# Altium schematic symbol library 100-1069_Library.SchLib: 57 symbols
Pins are listed as number, name and electrical type; pins without a type are passive.

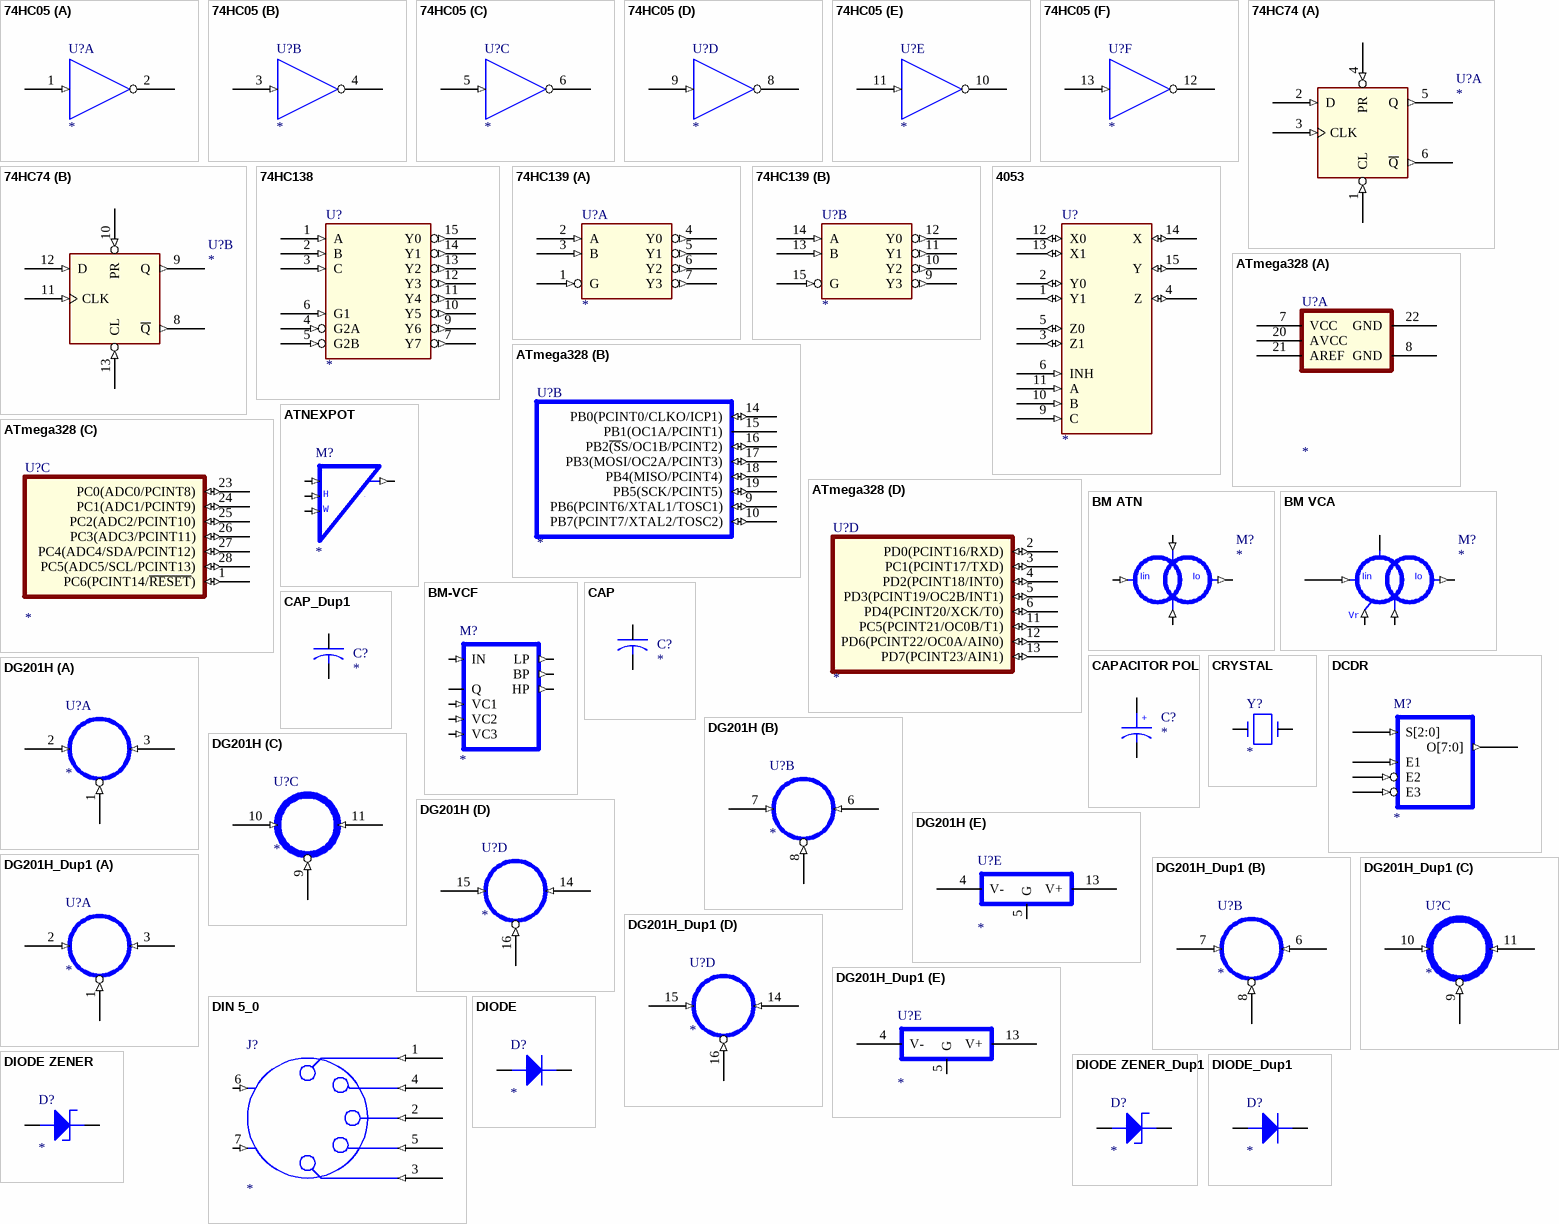
[diagram p0: symbols 74HC05 to DIODE_Dup1]

## 74HC05
designator U?
part A pins: 1 I (in), 2 O (oc), 7 GND (power) hidden to GND, 14 VCC (power) hidden to VCC
part B pins: 3 I (in), 4 O (oc), 7 GND (power) hidden to GND, 14 VCC (power) hidden to VCC
part C pins: 5 I (in), 6 O (oc), 7 GND (power) hidden to GND, 14 VCC (power) hidden to VCC
part D pins: 7 GND (power) hidden to GND, 8 O (oc), 9 I (in), 14 VCC (power) hidden to VCC
part E pins: 7 GND (power) hidden to GND, 10 O (oc), 11 I (in), 14 VCC (power) hidden to VCC
part F pins: 7 GND (power) hidden to GND, 12 O (oc), 13 I (in), 14 VCC (power) hidden to VCC
1 alternate drawing of the same symbol

## 74HC74
designator U?
part A pins: 1 CL (in), 2 D (in), 3 CLK (in), 4 PR (in), 5 Q (out), 6 ~{Q} (out), 7 GND (power) hidden to GND, 14 VCC (power) hidden to VCC
part B pins: 7 GND (power) hidden to GND, 8 ~{Q} (out), 9 Q (out), 10 PR (in), 11 CLK (in), 12 D (in), 13 CL (in), 14 VCC (power) hidden to VCC

## 74HC138
designator U?
pins: 1 A (in), 2 B (in), 3 C (in), 4 G2A (in), 5 G2B (in), 6 G1 (in), 7 Y7 (out), 8 GND (power) hidden to GND, 9 Y6 (out), 10 Y5 (out), 11 Y4 (out), 12 Y3 (out), 13 Y2 (out), 14 Y1 (out), 15 Y0 (out), 16 VCC (power) hidden to VCC

## 74HC139
designator U?
part A pins: 1 G (in), 2 A (in), 3 B (in), 4 Y0 (out), 5 Y1 (out), 6 Y2 (out), 7 Y3 (out), 8 GND (power) hidden to GND, 16 VCC (power) hidden to VCC
part B pins: 8 GND (power) hidden to GND, 9 Y3 (out), 10 Y2 (out), 11 Y1 (out), 12 Y0 (out), 13 B (in), 14 A (in), 15 G (in), 16 VCC (power) hidden to VCC

## 4053
designator U?
pins: 1 Y1 (io), 2 Y0 (io), 3 Z1 (io), 4 Z (io), 5 Z0 (io), 6 INH (in), 7 VEE (power) hidden to VEE, 8 VSS (power) hidden to VSS, 9 C (in), 10 B (in), 11 A (in), 12 X0 (io), 13 X1 (io), 14 X (io), 15 Y (io), 16 VDD (power) hidden to VDD

## ATmega328
designator U?
footprint DIP28.3
part A pins: 7 VCC, 8 GND, 20 AVCC, 21 AREF, 22 GND
part B pins: 9 PB6(PCINT6/XTAL1/TOSC1) (io), 10 PB7(PCINT7/XTAL2/TOSC2) (io), 14 PB0(PCINT0/CLKO/ICP1) (io), 15 PB1(OC1A/PCINT1), 16 PB2~{(S}S/OC1B/PCINT2) (io), 17 PB3(MOSI/OC2A/PCINT3) (io), 18 PB4(MISO/PCINT4) (io), 19 PB5(SCK/PCINT5) (io)
part C pins: 1 PC6(PCINT14/~{RESET}) (io), 23 PC0(ADC0/PCINT8) (io), 24 PC1(ADC1/PCINT9) (io), 25 PC2(ADC2/PCINT10) (io), 26 PC3(ADC3/PCINT11) (io), 27 PC4(ADC4/SDA/PCINT12) (io), 28 PC5(ADC5/SCL/PCINT13) (io)
part D pins: 2 PD0(PCINT16/RXD) (io), 3 PC1(PCINT17/TXD) (io), 4 PD2(PCINT18/INT0) (io), 5 PD3(PCINT19/OC2B/INT1) (io), 6 PD4(PCINT20/XCK/T0) (io), 11 PC5(PCINT21/OC0B/T1) (io), 12 PD6(PCINT22/OC0A/AIN0) (io), 13 PD7(PCINT23/AIN1) (io)

## ATNEXPOT
designator M?
pins: IN (in), OUT (out), POT_H (in), POT_W (in)
text: H; W

## BM ATN
designator M?
pins: CVN (in), CVP (in), Iin (in), Io (out)

## BM VCA
designator M?
pins: -VR (in), CVN, CVP (in), Iin (in), Io (out)
text: Vr

## BM-VCF
designator M?
pins: BP (out), HP (out), IN (in), LP (out), Q, VC1 (in), VC2 (in), VC3 (in)

## CAP
designator C?
pins: 1, 2

## CAP_Dup1
designator C?
pins: 1, 2

## CAPACITOR POL
designator C?
pins: 1, 2
text: +

## CRYSTAL
designator Y?
pins: 1, 2

## DCDR
designator M?
pins: E1 (in), E2 (in), E3 (in), O[7:0] (out), S[2:0] (in)

## DG201H
designator U?
DIGIKEY PN: ADG201AKNZ-ND
footprint DIP16
part A pins: 1 IN (in), 2 D (in), 3 S1 (in)
part B pins: 6 S1 (in), 7 D (in), 8 IN (in)
part C pins: 9 IN (in), 10 D (in), 11 S1 (in)
part D pins: 14 S1 (in), 15 D (in), 16 IN (in)
part E pins: 4 V-, 5 G, 13 V+

## DG201H_Dup1
designator U?
DIGIKEY PN: ADG201AKNZ-ND
footprint DIP16
part A pins: 1 IN (in), 2 D (in), 3 S1 (in)
part B pins: 6 S1 (in), 7 D (in), 8 IN (in)
part C pins: 9 IN (in), 10 D (in), 11 S1 (in)
part D pins: 14 S1 (in), 15 D (in), 16 IN (in)
part E pins: 4 V-, 5 G, 13 V+

## DIN 5_0
designator J?
pins: 1 (in), 2 (in), 3 (in), 4 (in), 5 (in), 6 (in), 7 (in)

## DIODE
designator D?
pins: ANODE, CATHODE

## DIODE ZENER
designator D?
pins: ANODE, CATHODE

## DIODE ZENER_Dup1
designator D?
pins: ANODE, CATHODE

## DIODE_Dup1
designator D?
pins: ANODE, CATHODE

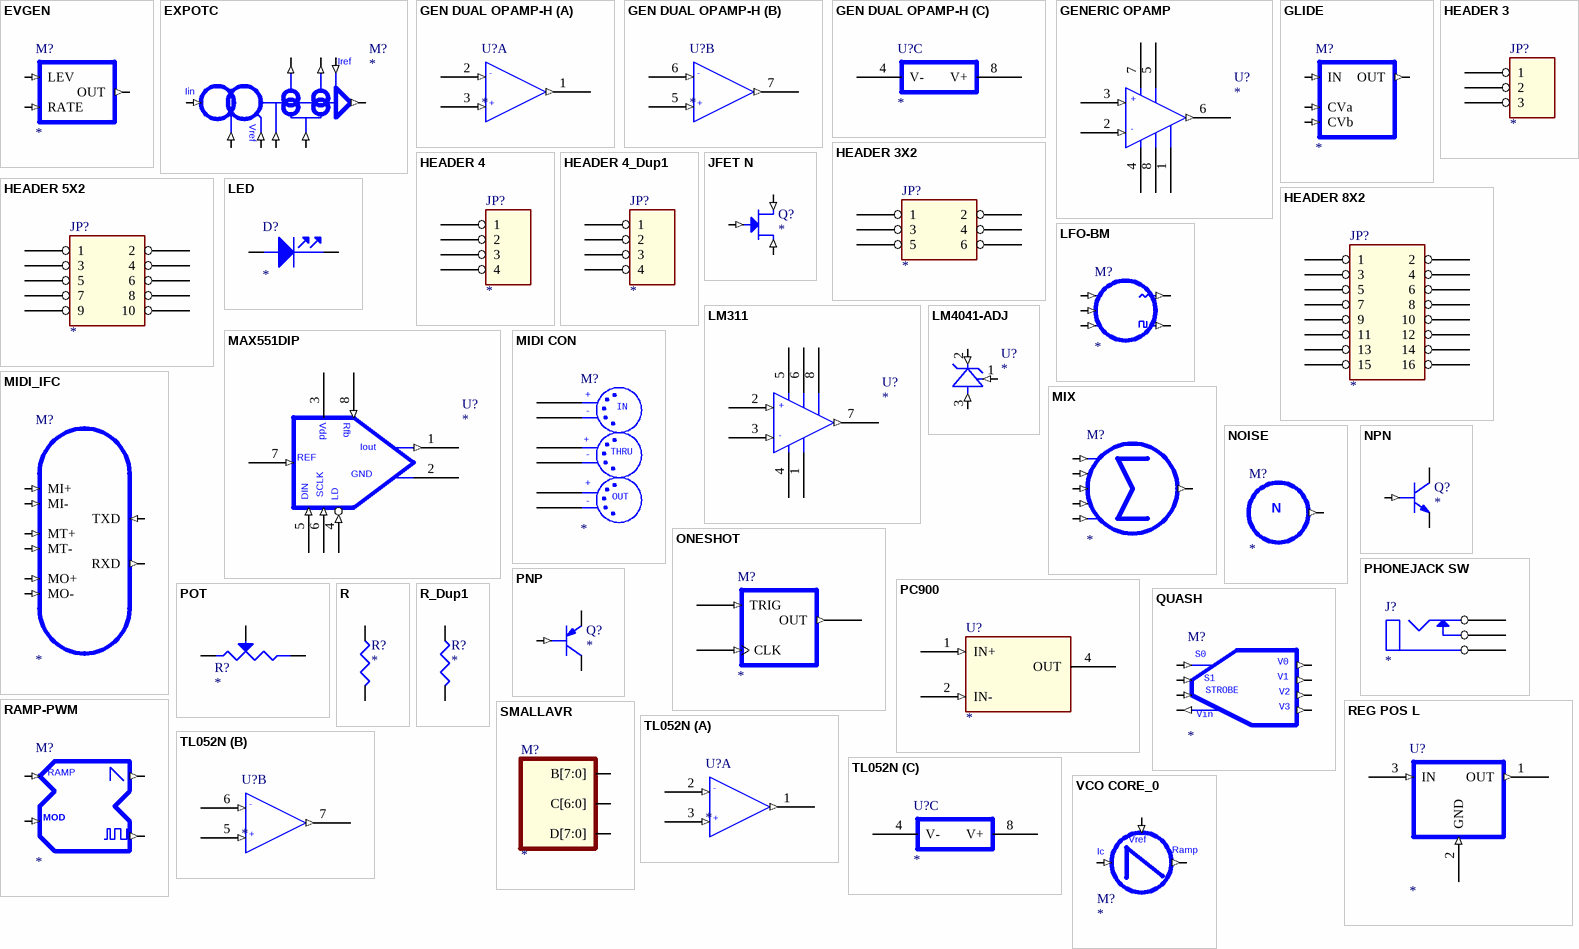
[diagram p1: symbols EVGEN to VCO CORE_0]

## EVGEN
designator M?
pins: LEV (in), OUT (out), RATE (in)

## EXPOTC
designator M?
pins: -VREF (in), E (in), GAIN (in), Iin (in), Io1 (out), Io2 (out), Iref (in), O (out), R (in)
text: Vref

## GEN DUAL OPAMP-H
designator U?
PACKAGE: GEN_DUAL_OA
footprint DIP8
part A pins: 1 OUT (out), 2 - (in), 3 + (in)
part B pins: 5 + (in), 6 - (in), 7 OUT (out)
part C pins: 4 V-, 8 V+
1 alternate drawing of the same symbol

## GENERIC OPAMP
designator U?
pins: 1 COMP3, 2 -IN (in), 3 +IN (in), 4 V-, 5 COMP1, 6 OUT (out), 7 V+, 8 COMP2
1 alternate drawing of the same symbol
text: +; -

## GLIDE
designator M?
pins: CVa (in), CVb (in), IN (in), OUT (out)

## HEADER 3
designator JP?
pins: 1, 2, 3

## HEADER 3X2
designator JP?
pins: 1, 2, 3, 4, 5, 6

## HEADER 4
designator JP?
pins: 1, 2, 3, 4

## HEADER 4_Dup1
designator JP?
pins: 1, 2, 3, 4

## HEADER 5X2
designator JP?
pins: 1, 2, 3, 4, 5, 6, 7, 8, 9, 10

## HEADER 8X2
designator JP?
pins: 1, 2, 3, 4, 5, 6, 7, 8, 9, 10, 11, 12, 13, 14, 15, 16

## JFET N
designator Q?
pins: DRAIN (in), GATE (in), SOURCE (in)

## LED
designator D?
pins: ANODE, CATHODE

## LFO-BM
designator M?
pins: FC1 (in), FC2 (in), FC3 (in), SQR (out), TRI (out)

## LM311
designator U?
pins: 1 GND, 2 +IN (in), 3 -IN (in), 4 V-, 5 BALANCE, 6 BAL/STROBE, 7 OUT (out), 8 V+
text: +; -

## LM4041-ADJ
designator U?
pins: 1 ADJ (in), 2 CATHODE (in), 3 ANODE (in)

## MAX551DIP
designator U?
footprint DIP8
pins: 1 Iout (out), 2 GND, 3 VDD, 4 LD (in), 5 DIN (in), 6 SCLK (in), 7 VREF (in), 8 Rfb (in)
text: Vdd; REF

## MIDI CON
designator M?
pins: MI+, MI-, MO+, MO-, MT+, MT-
text: +; IN; -; THRU; OUT

## MIDI_IFC
designator M?
pins: MI+ (in), MI- (in), MO+ (in), MO- (in), MT+ (in), MT- (in), RXD (out), TXD (in)

## MIX
designator M?
pins: I1 (in), I2 (in), I3 (in), I4 (in), I5 (in), OUT (out)

## NOISE
designator M?
pins: NOISE (out)
text: N

## NPN
designator Q?
footprint TO92
pins: BASE (in), COLLECTOR, EMITTER

## ONESHOT
designator M?
pins: CLK (in), OUT (out), TRIG (in)

## PC900
designator U?
pins: 1 IN+ (in), 2 IN- (in), 4 OUT (oc), 5 GND (power) hidden to GND, 6 VCC (power) hidden to VCC

## PHONEJACK SW
designator J?
footprint PHONE-N114A
pins: 1, 2, 3

## PNP
designator Q?
footprint TO92
pins: BASE (in), COLLECTOR, EMITTER

## POT
designator R?
pins: A, B, WIPER

## QUASH
designator M?
pins: S0 (in), S1 (in), STROBE (in), VIN (out), VO0 (out), VO1 (out), VO2 (out), VO3 (out)
text: V0; V1; V2; V3; Vin

## R
designator R?
pins: 1, 2

## R_Dup1
designator R?
pins: 1, 2

## RAMP-PWM
designator M?
pins: PWMIN (in), PWMOUT (out), RAMPIN (in), RAMPOUT (out)
text: RAMP; MOD

## REG POS L
designator U?
footprint TO92-LM336
pins: 1 OUT (out), 2 GND (in), 3 IN (in)

## SMALLAVR
designator M?
pins: B[7:0] (io), C[6:0] (io), D[7:0] (io)

## TL052N
designator U?
PACKAGE: GEN_DUAL_OA; DIGIKEY PN: 296-7163-5-ND
footprint DIP8
part A pins: 1 OUT (out), 2 - (in), 3 + (in)
part B pins: 5 + (in), 6 - (in), 7 OUT (out)
part C pins: 4 V-, 8 V+
1 alternate drawing of the same symbol

## VCO CORE_0
designator M?
pins: Ic (in), RAMP (out), VREF5P (in)
text: Vref; Ramp